# Altium footprint library RJ45_RJLSE4238101.PcbLib: 1 footprints
Each footprint in its own frame and in the unit in brackets; x right, y up, seen from the top. Pads: shape width x height; smd on the part's side, far side on the other; paste and mask are expansions set on the pad; w line width, h text height; cw(c..) or ccw(c..) is an arc to the next point about the centre after c.
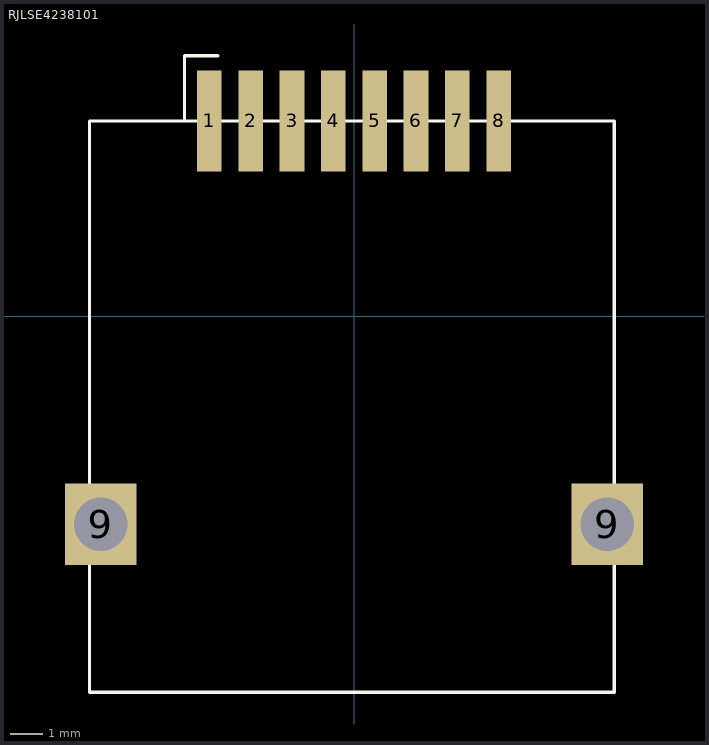
[diagram p0: the footprint, top view; thin cyan lines are the x and y axes]

## RJLSE4238101 [mm] "RJ45 flat profile, w/o LED, SMD version"
height 11.85
pads (10):
  rect 0.76x3.1 smd: 1(-4.445,6) 2(-3.175,6) 3(-1.905,6) 4(-0.635,6) 5(0.635,6) 6(1.905,6) 7(3.175,6) 8(4.445,6)
  rect 2.2x2.5 hole 1.65: 9(-7.78,-6.4) 9(7.78,-6.4)
Top Overlay:
  lines w0.1: -5.207,6 -5.207,8 -4.191,8 ; -8.128,-11.557 8.001,-11.557 8.001,6 -8.128,6 -8.128,-11.557
3D body "RJLSE4238101.step": height 11.96, standoff -2.11, extent -8.052,-11.506 8.052,7.087